# Altium schematic symbol library PMP40182.SCHLIB: 56 symbols (part 2 of 2)
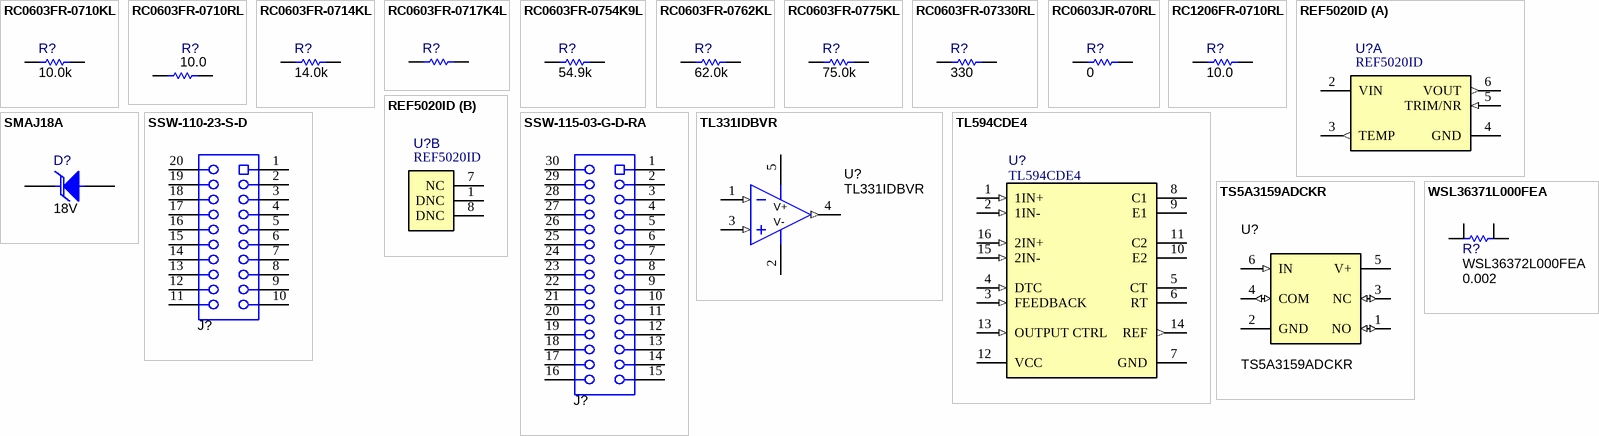
[diagram p2: symbols RC0603FR-0710KL to WSL36371L000FEA]

## RC0603JR-070RL
designator R?  ValueDisplayed: 0  (hidden comment: RC0603JR-070RL)
RES, 0, 5%, 0.1 W, 0603; Manufacturer: Yageo America; CompType: Resistor; Value: 0; Value_Code: 0000; Tolerance_%: 5; Power_W: 0.1; Value2: 0.1W; VDC_V: 50; TempCo: 200 ppm/C; SizeArea_mm2: 1.28; SizeX_mm: 1.6; SizeY_mm: 0.8; SizeZ_mm: 1; EIA_Code: E24; U/M: EA; AEC Category: Q200; SymbolVersion: 2009-05-29; PartNumber: RC0603JR-070RL; PackageReference: 0603; RoHS: Y; Res_ohm: 0; Value1: 5%; MountType: SMT; Technology: Thick Film; Published: 2008-06-26; Publisher: Texas Instruments; LatestRevisionDate: 2017-03-04; ComponentLink1Description: Datasheet link; ComponentLink1URL: http://www.yageo.com/pdf/Pu-RC0603_51_PbFree_L_2.pdf; Supplier 1: Digi-Key; Supplier Part Number 1: 311-0.0GRCT-ND; Supplier 2: Mouser; Supplier Part Number 2: 603-RC0603JR-070RL; Supplier 3: Farnell; Supplier Part Number 3: 9233130; AEC Qualified: ?
signal-integrity model Resistor
simulation model Resistor
footprint 0603
footprint 0603M
footprint 0603L
footprint 0603_HV
footprint 0603S
pins: 1, 2

## RC1206FR-0710RL
designator R?  ValueDisplayed: 10.0  (hidden comment: RC1206FR-0710RL)
RES, 10.0, 1%, 0.25 W, 1206; Manufacturer: Yageo America; CompType: Resistor; Value: 10.0; Res_ohm: 10; Value_Code: 10R0; Tolerance_%: 1; Power_W: 0.25; Value2: 0.25W; VDC_V: 200; TempCo: 200 ppm/C; SizeArea_mm2: 5.12; SizeX_mm: 3.2; SizeY_mm: 1.6; SizeZ_mm: 1.35; EIA_Code: E96; U/M: EA; AEC Category: Q200; SymbolVersion: 2009-05-29; PartNumber: RC1206FR-0710RL; PackageReference: 1206; RoHS: Y; Value1: 1%; MountType: SMT; Technology: Thick Film; Published: 2008-06-26; Publisher: Texas Instruments; LatestRevisionDate: 2017-03-10; ComponentLink1Description: Datasheet link; ComponentLink1URL: http://www.yageo.com/pdf/Pu-RC1206_51_PbFree_L_2.pdf; Supplier 1: Digi-Key; Supplier Part Number 1: 311-10.0FRCT-ND; Supplier 2: Mouser; Supplier Part Number 2: 603-RC1206FR-0710RL; Supplier 3: Farnell; Supplier Part Number 3: 9236643; AEC Qualified: ?
signal-integrity model Resistor
simulation model Resistor
footprint 1206
footprint 1206M
footprint 1206L
pins: 1, 2

## REF5020ID
designator U?
Low Noise, Very Low Drift, Precision Voltage Reference, -40 to 125 degC, 8-pin SOIC (D), Green (RoHS & no Sb/Br); Manufacturer: Texas Instruments; Alternate PartNumber: Equivalent; Initial Accuracy @ 25/deg C(%): 0.05; Iout/Iz(Max)(mA): 10; Iq(Max)(uA): 1000; Rating: Catalog; SubFamily: Series Voltage Reference; Temp Coeff(Max)(ppm/ degree C): 3; VI(Max)(V): 18; VI(Min)(V): 2.7; VO(V): 2.048; DatasheetVersion: SBOS410E; PackageVersion: 4040047-3/M; PackageReference: D0008A; PackageDescription: 8-Pin Plastic Small Outline, Body 4.9 x 3.9 mm, Pitch 1.27 mm; Supplier 1: Digi-Key; Supplier Part Number 1: 296-22202-5-ND; Supplier 2: Newark; Supplier Part Number 2: 50M8893; Supplier 3: Mouser; Supplier Part Number 3: 595-REF5020ID; Eco-Plan: Green (RoHS & no Sb/Br); MountType: SMT; Code_JEDEC: MS-012; PartNumber: REF5020ID; ComponentLink1Description: Manufacturer URL; ComponentLink1URL: http://www.ti.com/; ComponentLink2Description: Datasheet; ComponentLink2URL: http://www.ti.com/general/docs/lit/getliterature.tsp?genericPartNumber=REF5020&fileType=pdf; ComponentLink3Description: Package Specification; ComponentLink3URL: http://www.ti.com/litv/pdf/msoi002j; Alternate Manufacturer: Texas Instruments
footprint D0008A_N (SOIC, 8-Leads, Body 4.9x3.9mm, Pitch 1.27mm, IPC Medium Density)
footprint D0008A_L (SOIC, 8-Leads, Body 4.9x3.9mm, Pitch 1.27mm, IPC High Density)
footprint D0008A_M (SOIC, 8-Leads, Body 4.9x3.9mm, Pitch 1.27mm, IPC Low Density)
part A pins: 2 VIN (power), 3 TEMP (out), 4 GND (power), 5 TRIM/NR (in), 6 VOUT (out)
part B pins: 1 DNC, 7 NC, 8 DNC

## SMAJ18A
designator D?  value 18V  (hidden comment: SMAJ18A)
Diode, TVS, Uni, 18 V, 29.2 Vc, SMA; Manufacturer: Littelfuse; U/M: EA; Value1: 3.3W; Vr_V: 18; Power_W: 3.3; RJA_CperW: 120; AEC Category: Q101; AEC Qualified: N; SizeAreaWB_mm2: 37.3428; SizeArea_mm2: 16.3228; SizeX_mm: 5.59; SizeY_mm: 2.92; SizeZ_mm: 2.87; CompType: TVS; SymbolVersion: 2012-01-13; PartNumber: SMAJ18A; PackageReference: SMA; MountType: SMT; RoHS: Y; Published: 2008-10-08; Publisher: Texas Instruments; LatestRevisionDate: 2016-12-21; ComponentLink1Description: Datasheet link; ComponentLink1URL: http://www.littelfuse.com/~/media/electronics/datasheets/tvs_diodes/littelfuse_tvs_diode_smaj_datasheet.pdf.pdf; Supplier 1: Digi-Key; Supplier Part Number 1: SMAJ18ALFCT-ND; Supplier 2: Mouser; Supplier Part Number 2: 576-SMAJ18A; Supplier 3: Farnell; Supplier Part Number 3: 1787557; Vz_V: N/A; LatestRevisionNote: Updated Supplier Data
footprint SMA
pins: 1 K, 2 A

## SSW-110-23-S-D
designator J?  (value not drawn)
Receptacle, 2mm, 10x2, Gold, TH; Manufacturer: Samtec; SymbolCreator: a0412235; Pitch_mm: 2.0; Gender: Female; Row_Count: 2; SymbolVersion: 2013-12-20; PartNumber: SSW-110-23-S-D; PackageReference: 10x2 Receptacle; CompType: Receptacle; RoHS: Y; MountType: TH; ComponentLink1Description: Datasheet URL; ComponentLink1URL: https://www.samtec.com/ftppub/cpdf/SSW-1XX-XX-XXX-X-XX-XXX-XX-MKT.pdf; Orientation: Vertical; PinCount: 20; RowSpacing_mm: 2.0; ContactFinish: Gold; Color: Black; Publisher: Texas Instruments; LatestRevisionDate: 2016-07-19; Supplier 1: Newark; Supplier Part Number 1: 82P5575
footprint CON/2.0/10*2P
pins: 1, 2, 3, 4, 5, 6, 7, 8, 9, 10, 11, 12, 13, 14, 15, 16, 17, 18, 19, 20

## SSW-115-03-G-D-RA
designator J?  (value not drawn)
Receptacle, 2mm, 15x2, Gold, R/A, TH; Manufacturer: Samtec; SymbolCreator: a0412235; Pitch_mm: 2.0; Gender: Female; Shrouded: N; Row_Count: 2; SymbolVersion: 2013-12-22; PartNumber: SSW-115-03-G-D-RA; PackageReference: Receptacle, 2.0 mm, 15x2, R/A, TH; CompType: Receptacle; RoHS: Y; MountType: TH; ComponentLink1Description: Datasheet URL; ComponentLink1URL: http://www.samtec.com/documents/webfiles/cpdf/SSW-1XX-XX-XXX-X-XX-XXX-XX-MKT.pdf; Orientation: R/A; PinCount: 30; RowSpacing_mm: 2.0; ContactFinish: Gold; Color: Black; Publisher: Texas Instruments; LatestRevisionDate: 2016-07-19
footprint CON/2.0/15*2P
pins: 1, 2, 3, 4, 5, 6, 7, 8, 9, 10, 11, 12, 13, 14, 15, 16, 17, 18, 19, 20, 21, 22, 23, 24, 25, 26, 27, 28, 29, 30

## TL331IDBVR
designator U?
SINGLE DIFFERENTIAL COMPARATOR, DBV0005A (SOT-5); Manufacturer: Texas Instruments; Alternate PartNumber: TL331IDBVT; SymbolCreator: a0411947; SizeArea_mm2: 8.12; SizeAreaWB_mm2: 14.82; SizeX_mm: 2.8; SizeY_mm: 2.9; SizeZ_mm: 1.45; CompType: IC; U/M: EA; ComponentLink1URL: http://www.ti.com/lit/ds/symlink/tl331.pdf; SymbolVersion: 2013-02-27; PackageReference: DBV0005A; PartNumber: TL331IDBVR; Alternate Manufacturer: Texas Instruments; ComponentLink1Description: Datasheet Link; PackageDescription: SOT-5; MountType: SMT; RoHS: Y; Publisher: Texas Instruments; LatestRevisionDate: 2016-09-25
footprint DBV0005A_N
footprint DBV0005A_M
footprint DBV0005A_L
pins: 1 IN- (in), 2 V-/GND (power), 3 IN+ (in), 4 OUT (out), 5 V+ (power)
text: V-

## TL594CDE4
designator U?
Pulse-Width-Modulation Control Circuit with Voltage Control, 45 % Duty Cycle, 0 to +70 degC, 16-pin SOIC (D), Green (RoHS & no Sb/Br); Manufacturer: Texas Instruments; Alternate PartNumber: Equivalent; Duty Cycle(Max)(%): 45; Frequency(Max)(kHz): 300; Rating: Military; Regulated Outputs(#): 2; SubFamily: PWM Controller; Topology: Boost, Buck, Flyback, Forward, Full-Bridge, Half-Bridge, Push-Pull; DatasheetVersion: SLVS052G; PackageVersion: revM, Jun-2011; PackageReference: D0016A; PackageDescription: 16-Pin Plastic Small Outline Integrated Circuit, 9.9 x 3.9 mm, Pitch 1.27 mm Pitch; Supplier 1: Digi-Key; Supplier Part Number 1: TL594CDE4-ND; Supplier 2: Farnell; Supplier Part Number 2: 1236540; Supplier 3: Newark; Supplier Part Number 3: 13M5598; Supplier 4: Newark; Supplier Part Number 4: 37K4552; Control Method: Voltage; Eco-Plan: Green (RoHS & no Sb/Br); MountType: SMT; PartNumber: TL594CDE4; ComponentLink1Description: Datasheet; ComponentLink1URL: http://www.ti.com/general/docs/lit/getliterature.tsp?genericPartNumber=TL594&fileType=pdf; Alternate Manufacturer: Texas Instruments; Supplier 5: Mouser; Supplier Part Number 5: 595-TL594CDE4; Code_JEDEC: MS-012AC
footprint D0016A_N (SOIC, 16-Leads, Body 9.9x3.9mm, Pitch 1.27mm, IPC Medium Density)
footprint D0016A_L (SOIC, 16-Leads, Body 9.9x3.9mm, Pitch 1.27mm, IPC High Density)
footprint D0016A_M (SOIC, 16-Leads, Body 9.9x3.9mm, Pitch 1.27mm, IPC Low Density)
pins: 1 1IN+ (in), 2 1IN- (in), 3 FEEDBACK (in), 4 DTC (in), 5 CT, 6 RT, 7 GND (power), 8 C1, 9 E1, 10 E2, 11 C2, 12 VCC (power), 13 OUTPUT CTRL (in), 14 REF (out), 15 2IN- (in), 16 2IN+ (in)

## TS5A3159ADCKR
designator U?
1-Ohm SPDT ANALOG SWITCH 5-V/3.3-V SINGLE-CHANNEL 2:1 MULTIPLEXER/DEMULTIPLEXER, DCK0006A (SOT-6); Alternate PartNumber: TS5A3159ADCKT; Manufacturer: Texas Instruments; SymbolCreator: a0799628; SizeArea_mm2: 4.2; SizeAreaWB_mm2: 9.3; SizeX_mm: 2.1; SizeY_mm: 2; SizeZ_mm: 1.1; CompType: IC; U/M: EA; SymbolVersion: 2016-3-6; PartNumber: TS5A3159ADCKR; PackageReference: DCK0006A; PackageDescription: SOT-6; MountType: SMT; ComponentLink1Description: Datasheet Link; ComponentLink1URL: http://www.ti.com/lit/ds/symlink/ts5a3159a.pdf; RoHS: Y; Publisher: Texas Instruments; LatestRevisionDate: 2016-12-20; Alternate Manufacturer: Texas Instruments
footprint DCK0006A_N (SOT23, 6-Leads, Body 2x1.3mm, Pitch 0.65mm, Lead Span 2.1mm, IPC Medium Density)
footprint DCK0006A_M
footprint DCK0006A_L
pins: 1 NO (io), 2 GND (power), 3 NC (io), 4 COM (io), 5 V+ (power), 6 IN (in)
1 alternate drawing of the same symbol

## WSL36371L000FEA
designator R?, comment WSL36372L000FEA  ValueDisplayed: 0.002
RES, 0.002, 1%, 3 W, WSL3637; Manufacturer: Vishay-Dale; CompType: Resistor; Value: 0.002; Value_Code: 2L000; Tolerance_%: 1; Power_W: 3; Value2: 3W; VDC_V: 0; TempCo: 75 ppm/C; EIA_Code: E96; U/M: EA; AEC Category: Q200; SymbolVersion: 2009-05-29; PartNumber: WSL36372L000FEA; PackageReference: WSL3637; RoHS: Y; Res_ohm: 0.002; Value1: 1%; MountType: SMT; Technology: Metal Film; Published: 2008-06-26; Publisher: Texas Instruments; LatestRevisionDate: 2016-09-24; ComponentLink1Description: Datasheet link; ComponentLink1URL: http://www.vishay.com/docs/30099/wsl3637.pdf; Supplier 1: Mouser; Supplier Part Number 1: 71-WSL36372L000FEA; Supplier 2: Newark; Supplier Part Number 2: 46P3685; AEC Qualified: ?
signal-integrity model Resistor
simulation model Resistor
footprint WSL3637_0.001
pins: 1, 2, 3, 4